# EAGLE library part UPC2710TB (library renesas)
MEDIUM POWER SI MMIC AMPLIFIER 5V, SUPER MINIMOLD
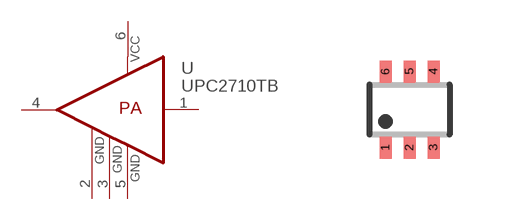
[diagram p1: symbol with the pads of SO6; footprint SO6]

Designator prefix U

## UPC2710TB  [SO6]
1  IN  in
2  GND  pwr
3  GND  pwr
4  OUT  out
5  GND  pwr
6  VCC  pwr

## Footprint SO6 (pad centres in mm)
SO-6 SOT-363
smd 0.3 x 0.55: 1 -0.6,-0.95; 2 0,-0.95; 3 0.6,-0.95; 4 0.6,0.95; 5 0,0.95; 6 -0.6,0.95